# EAGLE library part 4CH_FND-DIP (library ARTMEGA)
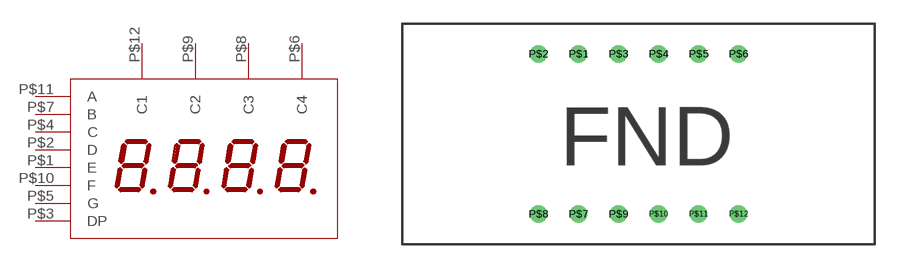
[diagram p3: symbol with the pads of 4CH_FND-DIP; footprint 4CH_FND-DIP]

Designator prefix LED

## 4CH_FND-DIP  [4CH_FND-DIP]
P$1  E
P$2  D
P$3  DP
P$4  C
P$5  G
P$6  C4
P$7  B
P$8  C3
P$9  C2
P$10  F
P$11  A
P$12  C1

## Footprint 4CH_FND-DIP (pad centres in mm)
drill 0.6: P$1 -3.81,5.08; P$2 -6.35,5.08; P$3 -1.27,5.08; P$4 1.27,5.08; P$5 3.81,5.08; P$6 6.35,5.08; P$7 -3.81,-5.08; P$8 -6.35,-5.08; P$9 -1.27,-5.08; P$10 1.27,-5.08; P$11 3.81,-5.08; P$12 6.35,-5.08